# Altium schematic symbol library KSZ8794CNXIC.Schlib: 1 symbol
Pins are listed as number, name and electrical type; pins without a type are passive.

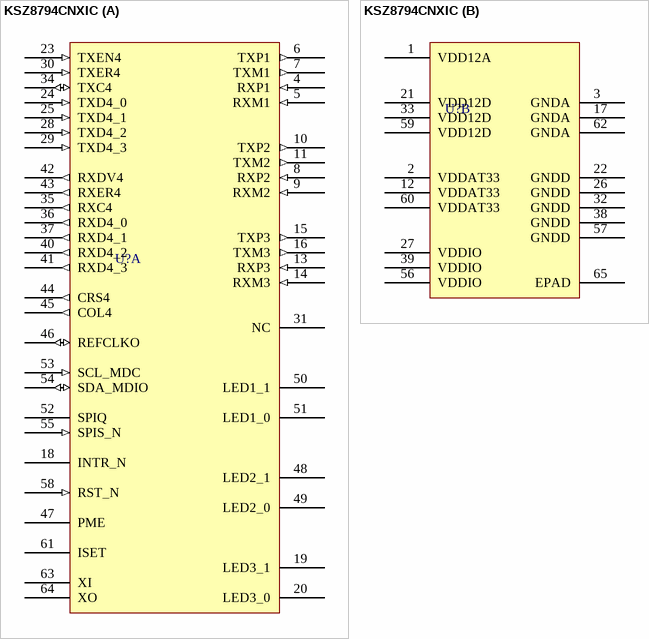
[diagram p0: symbol KSZ8794CNXIC]

## KSZ8794CNXIC
designator U?
Integrated 4-Port 10/100 Managed Ethernet Switch with Gigabit RGMII/MII/RMII Interface
part A pins: 4 RXP1 (in), 5 RXM1 (in), 6 TXP1 (out), 7 TXM1 (out), 8 RXP2 (in), 9 RXM2 (in), 10 TXP2 (out), 11 TXM2 (out), 13 RXP3 (in), 14 RXM3 (in), 15 TXP3 (out), 16 TXM3 (out), 18 INTR_N (oc), 19 LED3_1, 20 LED3_0, 23 TXEN4 (in), 24 TXD4_0 (in), 25 TXD4_1 (in), 28 TXD4_2 (in), 29 TXD4_3 (in), 30 TXER4 (in), 31 NC, 34 TXC4 (io), 35 RXC4 (out), 36 RXD4_0 (out), 37 RXD4_1 (out), 40 RXD4_2 (out), 41 RXD4_3 (out), 42 RXDV4 (out), 43 RXER4 (out), 44 CRS4 (out), 45 COL4 (out), 46 REFCLKO (io), 47 PME, 48 LED2_1, 49 LED2_0, 50 LED1_1, 51 LED1_0, 52 SPIQ, 53 SCL_MDC (in), 54 SDA_MDIO (io), 55 SPIS_N (in), 58 RST_N (in), 61 ISET, 63 XI, 64 XO
part B pins: 1 VDD12A (power), 2 VDDAT33 (power), 3 GNDA (power), 12 VDDAT33 (power), 17 GNDA (power), 21 VDD12D (power), 22 GNDD (power), 26 GNDD (power), 27 VDDIO (power), 32 GNDD (power), 33 VDD12D (power), 38 GNDD (power), 39 VDDIO (power), 56 VDDIO (power), 57 GNDD (power), 59 VDD12D (power), 60 VDDAT33 (power), 62 GNDA (power), 65 EPAD